# EAGLE library part TMP112AIDRLT (library C3-Ti)
Precision Digital Temperature Sensor, I2C/SMBUS
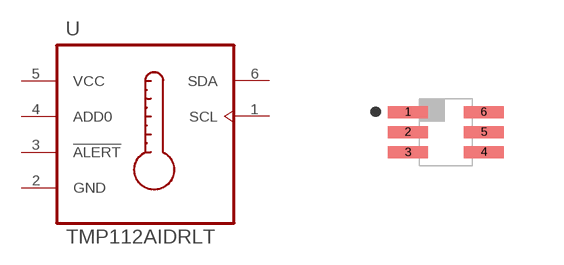
[diagram p14: symbol with the pads of SOT50P120X60-6N; footprint SOT50P120X60-6N]

Designator prefix U

## TMP112AIDRLT (MPN: TMP112AIDRLT; OC_FARNELL: 1735574; OC_NEWARK: 14R8030; PACKAGE: SOT563-6; SUPPLIER: TEXAS INSTRUMENTS)  [SOT50P120X60-6N]
1  SCL  in
2  GND  pas
3  !ALERT  in
4  ADD0  in
5  VCC  pwr
6  SDA

## Footprint SOT50P120X60-6N (pad centres in mm)
SOT563-6
smd 1 x 0.3: 1 -0.95,0.5; 2 -0.95,0; 3 -0.95,-0.508; 4 0.95,-0.5; 5 0.95,0; 6 0.95,0.5